# EAGLE library part IMSC011* (library AMD_Taxi)
INMOS Link Adaptor
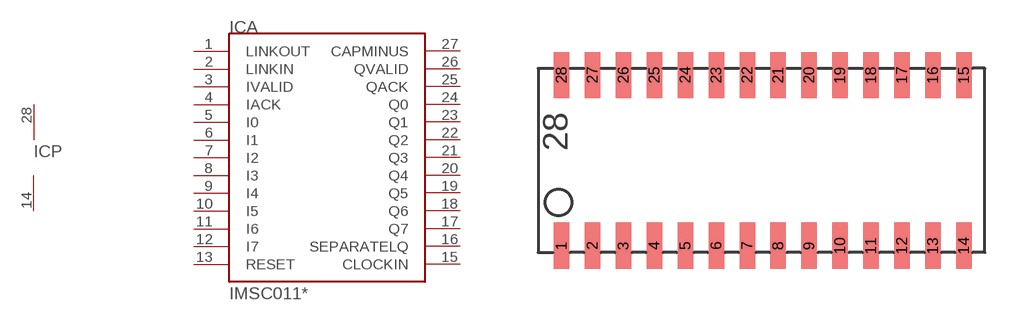
[diagram p8: symbol with the pads of SOJ28-3; footprint SOJ28-3]

Designator prefix IC; gates A=IMSC011M P=PWRN

## IMSC011M1-E20S  [SOJ28-3]
1  A:LINKOUT  out
2  A:LINKIN  in
3  A:IVALID  in
4  A:IACK  out
5  A:I0  in
6  A:I1  in
7  A:I2  in
8  A:I3  in
9  A:I4  in
10  A:I5  in
11  A:I6  in
12  A:I7  in
13  A:RESET  in
14  P:GND  pwr
15  A:CLOCKIN  in
16  A:SEPARATELQ  in
17  A:Q7  out
18  A:Q6  out
19  A:Q5  out
20  A:Q4  out
21  A:Q3  out
22  A:Q2  out
23  A:Q1  out
24  A:Q0  out
25  A:QACK  in
26  A:QVALID  out
27  A:CAPMINUS
28  P:VCC  pwr

## Footprint SOJ28-3 (pad centres in mm)
smd 0.635 x 1.905: 1 -7.62,-3.505; 2 -6.35,-3.505; 3 -5.08,-3.505; 4 -3.81,-3.505; 5 -2.54,-3.505; 6 -1.27,-3.505; 7 0,-3.505; 8 1.27,-3.505; 9 2.54,-3.505; 10 3.81,-3.505; 11 5.08,-3.505; 12 6.35,-3.505; 13 7.62,-3.505; 14 8.89,-3.505; 15 8.89,3.505; 16 7.62,3.505; 17 6.35,3.505; 18 5.08,3.505; 19 3.81,3.505; 20 2.54,3.505; 21 1.27,3.505; 22 0,3.505; 23 -1.27,3.505; 24 -2.54,3.505; 25 -3.81,3.505; 26 -5.08,3.505; 27 -6.35,3.505; 28 -7.62,3.505